# EAGLE library part HM3X2 (library parts2011)
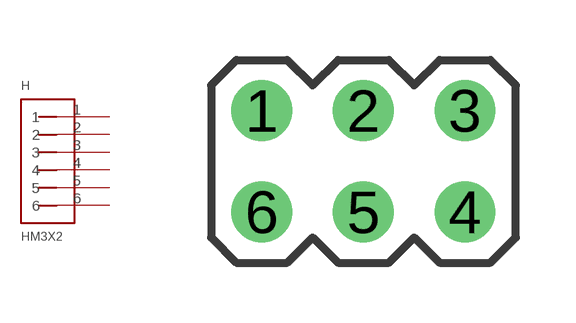
[diagram p9: symbol with the pads of HM3X2-PTH; footprint HM3X2-PTH]

Designator prefix H

## HM3X2-PTH  [HM3X2-PTH]
1  1  pas
2  2  pas
3  3  pas
4  4  pas
5  5  pas
6  6  pas

## Footprint HM3X2-PTH (pad centres in mm)
drill 1.016: 1 -2.54,1.27; 2 0,1.27; 3 2.54,1.27; 4 2.54,-1.27; 5 0,-1.27; 6 -2.54,-1.27